# EAGLE library part NRF51822 (library lio)
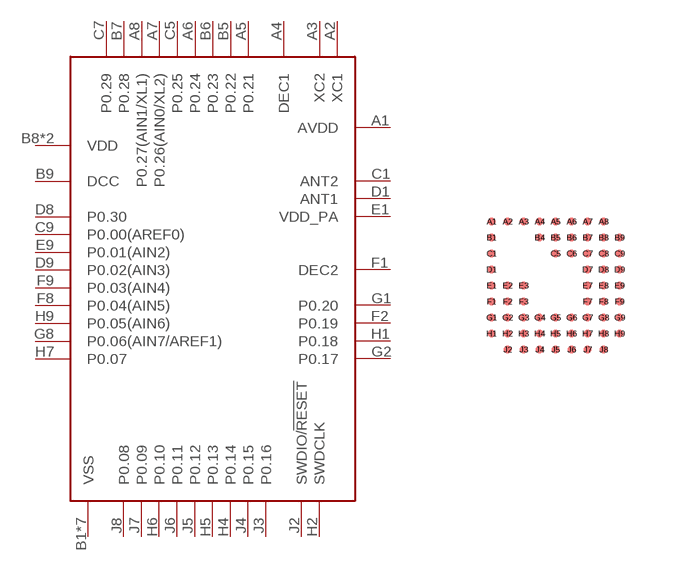
[diagram p4: symbol with the pads of CFAC-WLCSP; footprint CFAC-WLCSP]

Designator prefix -

## NRF51822  [CFAC-WLCSP]
A1  AVDD  pwr
A2  XC1
A3  XC2
A4  DEC1
A5  P0.21
A6  P0.24
A7  P0.26(AIN0/XL2)
A8  P0.27(AIN1/XL1)
B1  VSS  pwr
B4  VSS  pwr
B5  P0.22
B6  P0.23
B7  P0.28
B8  VDD  pwr
B9  DCC
C1  ANT2
C5  P0.25
C7  P0.29
C8  VSS  pwr
C9  P0.00(AREF0)
D1  ANT1
D7  VSS  pwr
D8  P0.30
D9  P0.02(AIN3)
E1  VDD_PA  sup
E9  P0.01(AIN2)
F1  DEC2
F2  P0.19
F8  P0.04(AIN5)
F9  P0.03(AIN4)
G1  P0.20
G2  P0.17
G6  VSS  pwr
G8  P0.06(AIN7/AREF1)
G9  VSS  pwr
H1  P0.18
H2  SWDCLK
H3  VSS  pwr
H4  P0.14
H5  P0.13
H6  P0.10
H7  P0.07
H8  VDD  pwr
H9  P0.05(AIN6)
J2  SWDIO/!RESET
J3  P0.16
J4  P0.15
J5  P0.12
J6  P0.11
J7  P0.09
J8  P0.08

## Footprint CFAC-WLCSP (pad centres in mm)
smd 0.2 x 0.2: A1 -1.6,1.6; A2 -1.2,1.6; A3 -0.8,1.6; A4 -0.4,1.6; A5 0,1.6; A6 0.4,1.6; A7 0.8,1.6; A8 1.2,1.6; B1 -1.6,1.2; B4 -0.4,1.2; B5 0,1.2; B6 0.4,1.2; B7 0.8,1.2; B8 1.2,1.2; B9 1.6,1.2; C1 -1.6,0.8; C5 0,0.8; C6 0.4,0.8; C7 0.8,0.8; C8 1.2,0.8; C9 1.6,0.8; D1 -1.6,0.4; D7 0.8,0.4; D8 1.2,0.4; D9 1.6,0.4; E1 -1.6,0; E2 -1.2,0; E3 -0.8,0; E7 0.8,0; E8 1.2,0; E9 1.6,0; F1 -1.6,-0.4; F2 -1.2,-0.4; F3 -0.8,-0.4; F7 0.8,-0.4; F8 1.2,-0.4; F9 1.6,-0.4; G1 -1.6,-0.8; G2 -1.2,-0.8; G3 -0.8,-0.8; G4 -0.4,-0.8; G5 0,-0.8; G6 0.4,-0.8; G7 0.8,-0.8; G8 1.2,-0.8; G9 1.6,-0.8; H1 -1.6,-1.2; H2 -1.2,-1.2; H3 -0.8,-1.2; H4 -0.4,-1.2; H5 0,-1.2; H6 0.4,-1.2; H7 0.8,-1.2; H8 1.2,-1.2; H9 1.6,-1.2; J2 -1.2,-1.6; J3 -0.8,-1.6; J4 -0.4,-1.6; J5 0,-1.6; J6 0.4,-1.6; J7 0.8,-1.6; J8 1.2,-1.6